# EAGLE library part 690367290876 (library con-wurth)
RECEPTACLE
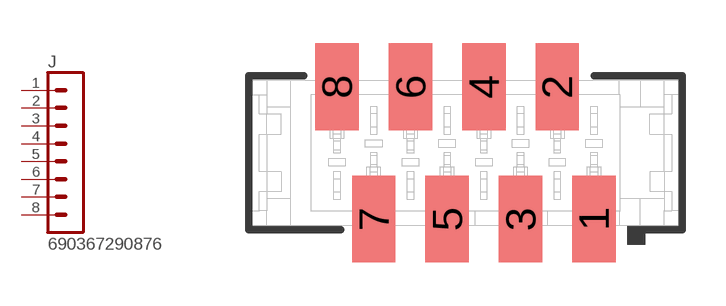
[diagram p1: symbol with the pads of 690367290876; footprint 690367290876]

Designator prefix J

## 690367290876  [690367290876]
1  1  pas
2  2  pas
3  3  pas
4  4  pas
5  5  pas
6  6  pas
7  7  pas
8  8  pas

## Footprint 690367290876 (pad centres in mm)
Receptacle SMD 8 Position 0.100" (2.54mm)
smd 1.5 x 3: 1 4.445,-2.286; 2 3.175,2.286; 3 1.905,-2.286; 4 0.635,2.286; 5 -0.635,-2.286; 6 -1.905,2.286; 7 -3.175,-2.286; 8 -4.445,2.286